# Altium integrated library Microchip Interface.IntLib: 329 symbols (part 6 of 10)
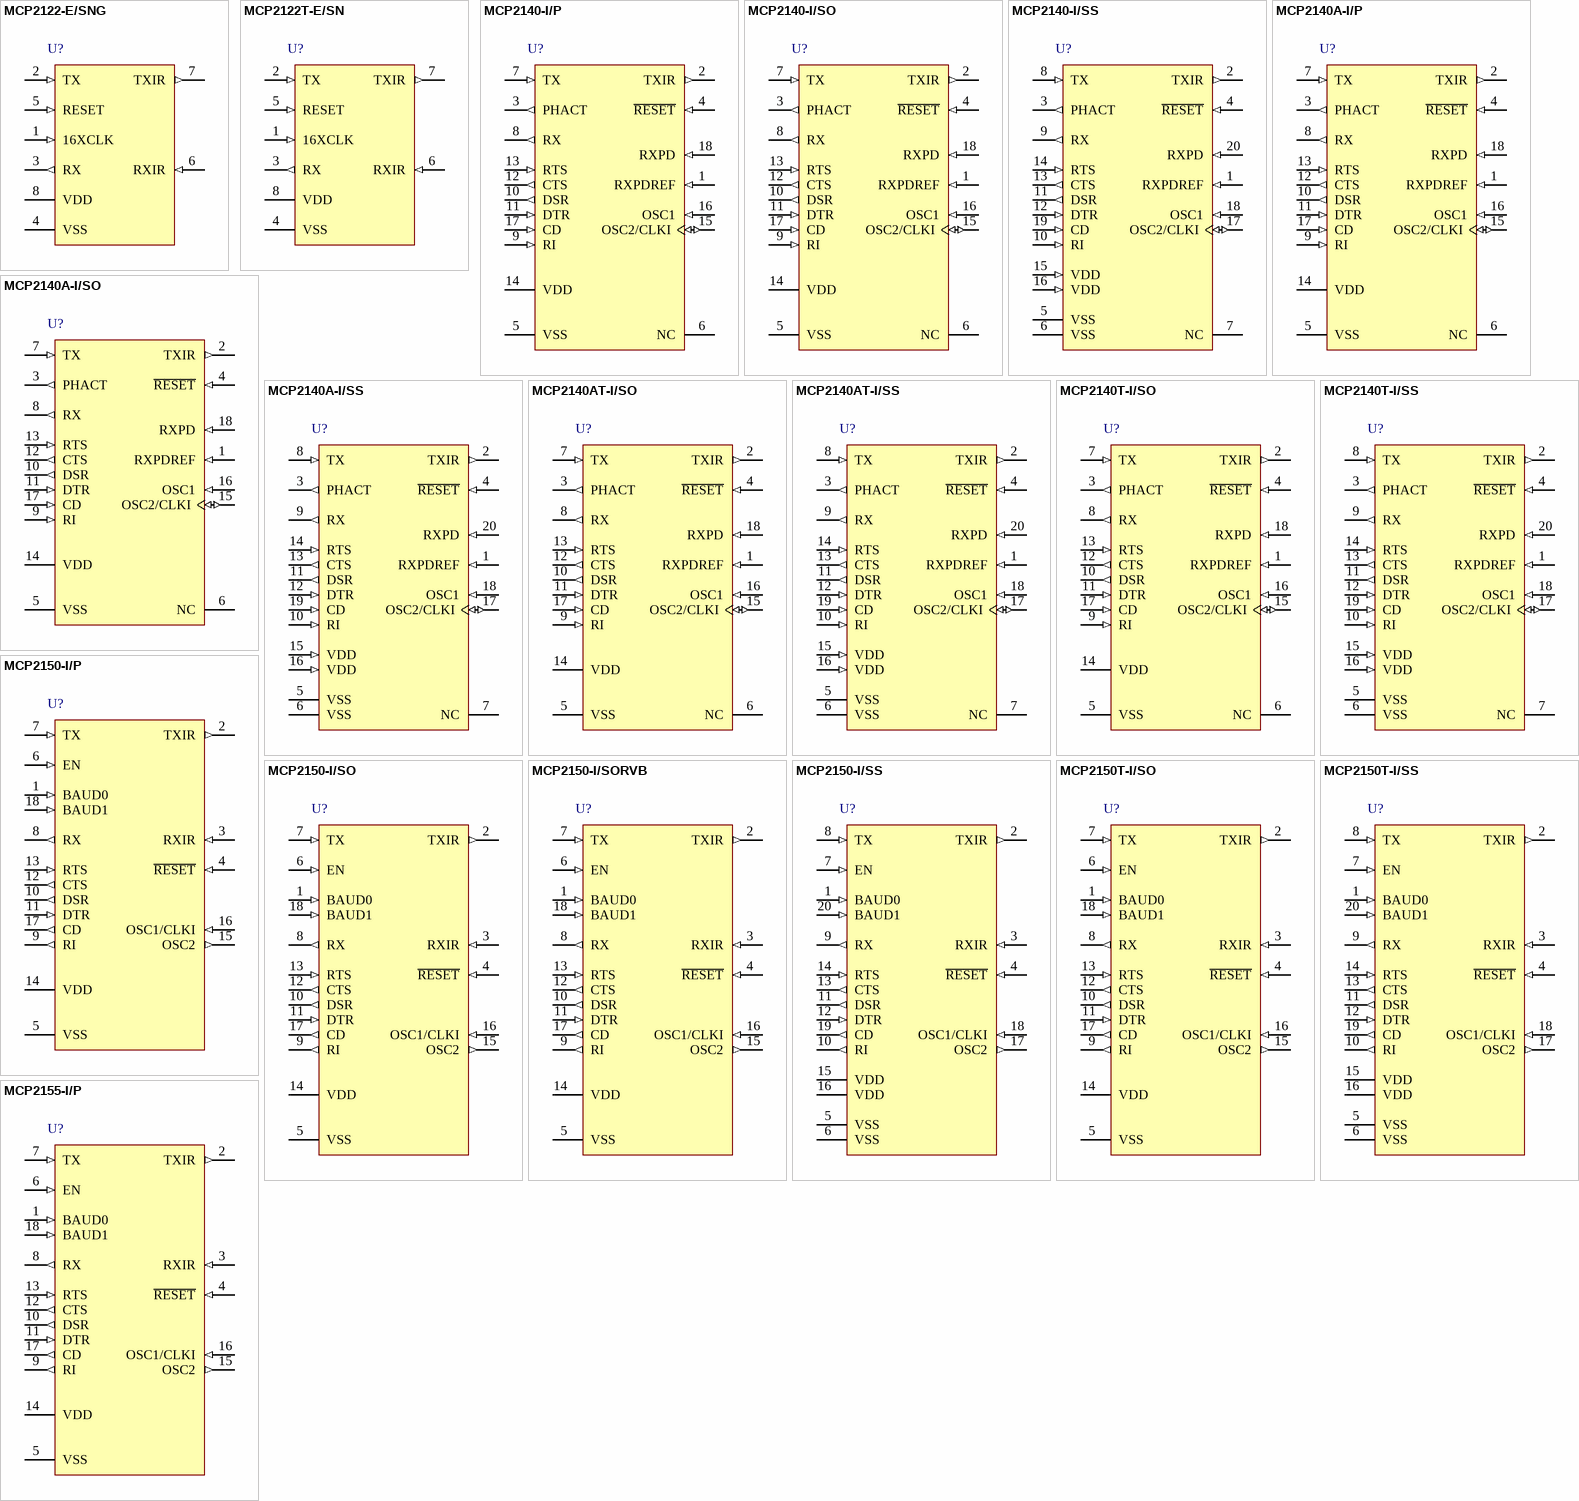
[diagram p18: symbols MCP2122-E/SNG to MCP2155-I/P]

## MCP2150-I/SORVB
designator U?
IrDA® Standard Protocol Stack Controller Supporting DTE Applications, 18-Pin SOIC, Industrial Temperature; Manufacturer: Microchip; PartNumber: MCP2150-I/SORVB; DatasheetVersion: revB, Mar-2003; PackageVersion: revBB, Aug-2009; PackageReference: SOIC-SO18; PackageDescription: 18-Lead Plastic Small Outline (SO) - Wide 7.50mm Body [SOIC]; Mounting Technology: Surface Mount; Code_JEDEC: MS-013; ComponentLink1Description: Manufacturer URL; ComponentLink1URL: http://www.microchip.com/; ComponentLink2Description: Datasheet; ComponentLink2URL: http://ww1.microchip.com/downloads/en/DeviceDoc/21655b.pdf; ComponentLink3Description: Package Specification; ComponentLink3URL: http://www.microchip.com/stellent/groups/techpub_sg/documents/packagingspec/en012702.pdf
footprint SOIC-SO18_N (SOIC, 18-Leads, Body 11.5x7.5mm, Pitch 1.27mm, IPC Medium Density)
footprint SOIC-SO18_L (SOIC, 18-Leads, Body 11.5x7.5mm, Pitch 1.27mm, IPC High Density)
footprint SOIC-SO18_M (SOIC, 18-Leads, Body 11.5x7.5mm, Pitch 1.27mm, IPC Low Density)
pins: 1 BAUD0 (in), 2 TXIR (out), 3 RXIR (in), 4 ~{RESET} (in), 5 VSS (power), 6 EN (in), 7 TX (in), 8 RX (out), 9 RI (out), 10 DSR (out), 11 DTR (in), 12 CTS (out), 13 RTS (in), 14 VDD (power), 15 OSC2 (out), 16 OSC1/CLKI (in), 17 CD (out), 18 BAUD1 (in)

## MCP2150-I/SS
designator U?
IrDA® Standard Protocol Stack Controller Supporting DTE Applications, 20-Pin SSOP, Industrial Temperature; Manufacturer: Microchip; PartNumber: MCP2150-I/SS; DatasheetVersion: revB, Mar-2003; PackageVersion: revBB, Aug-2009; PackageReference: SSOP-SS20; PackageDescription: 20-Lead Plastic Shrink Small Outline (SS) - 5.3mm Body [SSOP]; Supplier 1: Digi-Key; Supplier Part Number 1: MCP2150-I/SS-ND; Supplier 2: Newark; Supplier Part Number 2: 61K2941; Supplier 3: Mouser; Supplier Part Number 3: 579-MCP2150-I/SS; Mounting Technology: Surface Mount; Code_JEDEC: MO-150; ComponentLink1Description: Manufacturer URL; ComponentLink1URL: http://www.microchip.com/; ComponentLink2Description: Datasheet; ComponentLink2URL: http://ww1.microchip.com/downloads/en/DeviceDoc/21655b.pdf; ComponentLink3Description: Package Specification; ComponentLink3URL: http://www.microchip.com/stellent/groups/techpub_sg/documents/packagingspec/en012702.pdf
footprint SSOP-SS20_N (SOP, 20-Leads, Body 7.2x5.2mm, Pitch 0.65mm, IPC Medium Density)
footprint SSOP-SS20_L (SOP, 20-Leads, Body 7.2x5.2mm, Pitch 0.65mm, IPC High Density)
footprint SSOP-SS20_M (SOP, 20-Leads, Body 7.2x5.2mm, Pitch 0.65mm, IPC Low Density)
pins: 1 BAUD0 (in), 2 TXIR (out), 3 RXIR (in), 4 ~{RESET} (in), 5 VSS (power), 6 VSS (power), 7 EN (in), 8 TX (in), 9 RX (out), 10 RI (out), 11 DSR (out), 12 DTR (in), 13 CTS (out), 14 RTS (in), 15 VDD (power), 16 VDD (power), 17 OSC2 (out), 18 OSC1/CLKI (in), 19 CD (out), 20 BAUD1 (in)

## MCP2150T-I/SO
designator U?
IrDA® Standard Protocol Stack Controller Supporting DTE Applications, 18-Pin SOIC, Industrial Temperature, Tape and Reel; Manufacturer: Microchip; PartNumber: MCP2150T-I/SO; DatasheetVersion: revB, Mar-2003; PackageVersion: revBB, Aug-2009; PackageReference: SOIC-SO18; PackageDescription: 18-Lead Plastic Small Outline (SO) - Wide 7.50mm Body [SOIC]; Supplier 1: Digi-Key; Supplier Part Number 1: MCP2150T-I/SO-ND; Supplier 2: Mouser; Supplier Part Number 2: 579-MCP2150T-I/SO; Mounting Technology: Surface Mount; Code_JEDEC: MS-013; ComponentLink1Description: Manufacturer URL; ComponentLink1URL: http://www.microchip.com/; ComponentLink2Description: Datasheet; ComponentLink2URL: http://ww1.microchip.com/downloads/en/DeviceDoc/21655b.pdf; ComponentLink3Description: Package Specification; ComponentLink3URL: http://www.microchip.com/stellent/groups/techpub_sg/documents/packagingspec/en012702.pdf
footprint SOIC-SO18_N (SOIC, 18-Leads, Body 11.5x7.5mm, Pitch 1.27mm, IPC Medium Density)
footprint SOIC-SO18_L (SOIC, 18-Leads, Body 11.5x7.5mm, Pitch 1.27mm, IPC High Density)
footprint SOIC-SO18_M (SOIC, 18-Leads, Body 11.5x7.5mm, Pitch 1.27mm, IPC Low Density)
pins: 1 BAUD0 (in), 2 TXIR (out), 3 RXIR (in), 4 ~{RESET} (in), 5 VSS (power), 6 EN (in), 7 TX (in), 8 RX (out), 9 RI (out), 10 DSR (out), 11 DTR (in), 12 CTS (out), 13 RTS (in), 14 VDD (power), 15 OSC2 (out), 16 OSC1/CLKI (in), 17 CD (out), 18 BAUD1 (in)

## MCP2150T-I/SS
designator U?
IrDA® Standard Protocol Stack Controller Supporting DTE Applications, 20-Pin SSOP, Industrial Temperature, Tape and Reel; Manufacturer: Microchip; PartNumber: MCP2150T-I/SS; DatasheetVersion: revB, Mar-2003; PackageVersion: revBB, Aug-2009; PackageReference: SSOP-SS20; PackageDescription: 20-Lead Plastic Shrink Small Outline (SS) - 5.3mm Body [SSOP]; Supplier 1: Digi-Key; Supplier Part Number 1: MCP2150T-I/SS-ND; Supplier 2: Newark; Supplier Part Number 2: 92C4168; Supplier 3: Mouser; Supplier Part Number 3: 579-MCP2150T-I/SS; Mounting Technology: Surface Mount; Code_JEDEC: MO-150; ComponentLink1Description: Manufacturer URL; ComponentLink1URL: http://www.microchip.com/; ComponentLink2Description: Datasheet; ComponentLink2URL: http://ww1.microchip.com/downloads/en/DeviceDoc/21655b.pdf; ComponentLink3Description: Package Specification; ComponentLink3URL: http://www.microchip.com/stellent/groups/techpub_sg/documents/packagingspec/en012702.pdf
footprint SSOP-SS20_N (SOP, 20-Leads, Body 7.2x5.2mm, Pitch 0.65mm, IPC Medium Density)
footprint SSOP-SS20_L (SOP, 20-Leads, Body 7.2x5.2mm, Pitch 0.65mm, IPC High Density)
footprint SSOP-SS20_M (SOP, 20-Leads, Body 7.2x5.2mm, Pitch 0.65mm, IPC Low Density)
pins: 1 BAUD0 (in), 2 TXIR (out), 3 RXIR (in), 4 ~{RESET} (in), 5 VSS (power), 6 VSS (power), 7 EN (in), 8 TX (in), 9 RX (out), 10 RI (out), 11 DSR (out), 12 DTR (in), 13 CTS (out), 14 RTS (in), 15 VDD (power), 16 VDD (power), 17 OSC2 (out), 18 OSC1/CLKI (in), 19 CD (out), 20 BAUD1 (in)

## MCP2155-I/P
designator U?
IrDA® Standard Protocol Stack Controller Supporting DCE Applications, 18-Pin PDIP, Industrial Temperature; Manufacturer: Microchip; PartNumber: MCP2155-I/P; DatasheetVersion: revA, Mar-2003; PackageVersion: revBB, Aug-2009; PackageReference: PDIP300-P18; PackageDescription: 18-Lead Plastic Dual In-Line (P) - 300 mil Body [PDIP]; Supplier 1: Digi-Key; Supplier Part Number 1: MCP2155-I/P-ND; Supplier 2: Farnell; Supplier Part Number 2: 1557426; Supplier 3: Newark; Supplier Part Number 3: 89C7121; Supplier 4: Mouser; Supplier Part Number 4: 579-MCP2155-I/P; Mounting Technology: Through Hole; Code_JEDEC: MS-001; ComponentLink1Description: Manufacturer URL; ComponentLink1URL: http://www.microchip.com/; ComponentLink2Description: Datasheet; ComponentLink2URL: http://ww1.microchip.com/downloads/en/DeviceDoc/21690a.pdf; ComponentLink3Description: Package Specification; ComponentLink3URL: http://www.microchip.com/stellent/groups/techpub_sg/documents/packagingspec/en012702.pdf
footprint PDIP300-P18 (DIP, 18-Leads, Row Spacing 7.62mm, Pitch 2.54mm, Body 22.9x6.6mm)
pins: 1 BAUD0 (in), 2 TXIR (out), 3 RXIR (in), 4 ~{RESET} (in), 5 VSS (power), 6 EN (in), 7 TX (in), 8 RX (out), 9 RI (out), 10 DSR (out), 11 DTR (in), 12 CTS (out), 13 RTS (in), 14 VDD (power), 15 OSC2 (out), 16 OSC1/CLKI (in), 17 CD (out), 18 BAUD1 (in)

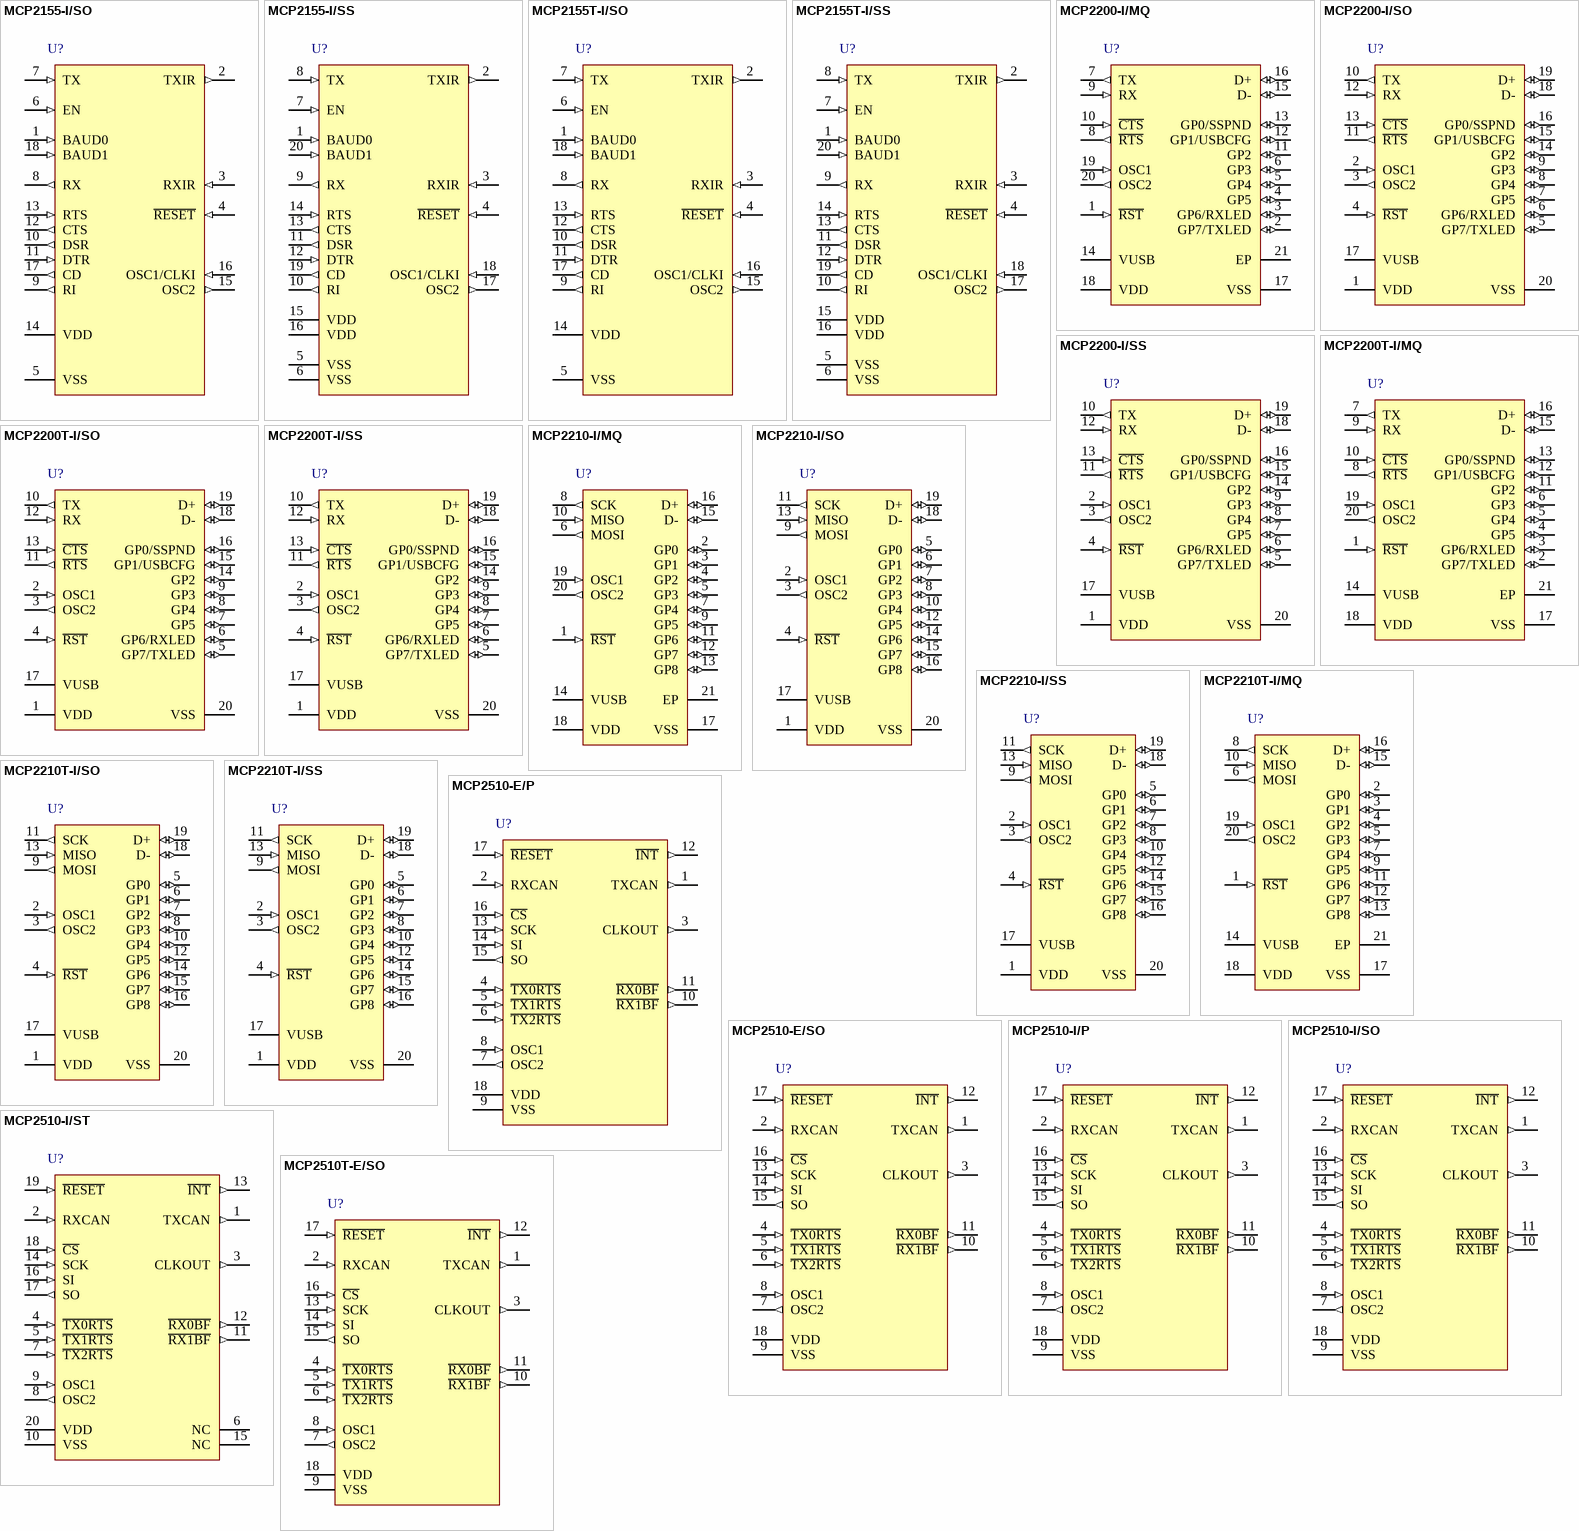
[diagram p8: symbols MCP2155-I/SO to MCP2510T-E/SO]

## MCP2155-I/SO
designator U?
IrDA® Standard Protocol Stack Controller Supporting DCE Applications, 18-Pin SOIC, Industrial Temperature; Manufacturer: Microchip; PartNumber: MCP2155-I/SO; DatasheetVersion: revA, Mar-2003; PackageVersion: revBB, Aug-2009; PackageReference: SOIC-SO18; PackageDescription: 18-Lead Plastic Small Outline (SO) - Wide 7.50mm Body [SOIC]; Supplier 1: Digi-Key; Supplier Part Number 1: MCP2155-I/SO-ND; Supplier 2: Newark; Supplier Part Number 2: 61K2942; Supplier 3: Mouser; Supplier Part Number 3: 579-MCP2155-I/SO; Mounting Technology: Surface Mount; Code_JEDEC: MS-013; ComponentLink1Description: Manufacturer URL; ComponentLink1URL: http://www.microchip.com/; ComponentLink2Description: Datasheet; ComponentLink2URL: http://ww1.microchip.com/downloads/en/DeviceDoc/21690a.pdf; ComponentLink3Description: Package Specification; ComponentLink3URL: http://www.microchip.com/stellent/groups/techpub_sg/documents/packagingspec/en012702.pdf
footprint SOIC-SO18_N (SOIC, 18-Leads, Body 11.5x7.5mm, Pitch 1.27mm, IPC Medium Density)
footprint SOIC-SO18_L (SOIC, 18-Leads, Body 11.5x7.5mm, Pitch 1.27mm, IPC High Density)
footprint SOIC-SO18_M (SOIC, 18-Leads, Body 11.5x7.5mm, Pitch 1.27mm, IPC Low Density)
pins: 1 BAUD0 (in), 2 TXIR (out), 3 RXIR (in), 4 ~{RESET} (in), 5 VSS (power), 6 EN (in), 7 TX (in), 8 RX (out), 9 RI (out), 10 DSR (out), 11 DTR (in), 12 CTS (out), 13 RTS (in), 14 VDD (power), 15 OSC2 (out), 16 OSC1/CLKI (in), 17 CD (out), 18 BAUD1 (in)

## MCP2155-I/SS
designator U?
IrDA® Standard Protocol Stack Controller Supporting DCE Applications, 20-Pin SSOP, Industrial Temperature; Manufacturer: Microchip; PartNumber: MCP2155-I/SS; DatasheetVersion: revA, Mar-2003; PackageVersion: revBB, Aug-2009; PackageReference: SSOP-SS20; PackageDescription: 20-Lead Plastic Shrink Small Outline (SS) - 5.3mm Body [SSOP]; Supplier 1: Digi-Key; Supplier Part Number 1: MCP2155-I/SS-ND; Supplier 2: Farnell; Supplier Part Number 2: 1854485; Supplier 3: Mouser; Supplier Part Number 3: 579-MCP2155-I/SS; Mounting Technology: Surface Mount; Code_JEDEC: MO-150; ComponentLink1Description: Manufacturer URL; ComponentLink1URL: http://www.microchip.com/; ComponentLink2Description: Datasheet; ComponentLink2URL: http://ww1.microchip.com/downloads/en/DeviceDoc/21690a.pdf; ComponentLink3Description: Package Specification; ComponentLink3URL: http://www.microchip.com/stellent/groups/techpub_sg/documents/packagingspec/en012702.pdf
footprint SSOP-SS20_N (SOP, 20-Leads, Body 7.2x5.2mm, Pitch 0.65mm, IPC Medium Density)
footprint SSOP-SS20_L (SOP, 20-Leads, Body 7.2x5.2mm, Pitch 0.65mm, IPC High Density)
footprint SSOP-SS20_M (SOP, 20-Leads, Body 7.2x5.2mm, Pitch 0.65mm, IPC Low Density)
pins: 1 BAUD0 (in), 2 TXIR (out), 3 RXIR (in), 4 ~{RESET} (in), 5 VSS (power), 6 VSS (power), 7 EN (in), 8 TX (in), 9 RX (out), 10 RI (out), 11 DSR (out), 12 DTR (in), 13 CTS (out), 14 RTS (in), 15 VDD (power), 16 VDD (power), 17 OSC2 (out), 18 OSC1/CLKI (in), 19 CD (out), 20 BAUD1 (in)

## MCP2155T-I/SO
designator U?
IrDA® Standard Protocol Stack Controller Supporting DCE Applications, 18-Pin SOIC, Industrial Temperature, Tape and Reel; Manufacturer: Microchip; PartNumber: MCP2155T-I/SO; DatasheetVersion: revA, Mar-2003; PackageVersion: revBB, Aug-2009; PackageReference: SOIC-SO18; PackageDescription: 18-Lead Plastic Small Outline (SO) - Wide 7.50mm Body [SOIC]; Supplier 1: Digi-Key; Supplier Part Number 1: MCP2155T-I/SO-ND; Supplier 2: Mouser; Supplier Part Number 2: 579-MCP2155T-I/SO; Mounting Technology: Surface Mount; Code_JEDEC: MS-013; ComponentLink1Description: Manufacturer URL; ComponentLink1URL: http://www.microchip.com/; ComponentLink2Description: Datasheet; ComponentLink2URL: http://ww1.microchip.com/downloads/en/DeviceDoc/21690a.pdf; ComponentLink3Description: Package Specification; ComponentLink3URL: http://www.microchip.com/stellent/groups/techpub_sg/documents/packagingspec/en012702.pdf
footprint SOIC-SO18_N (SOIC, 18-Leads, Body 11.5x7.5mm, Pitch 1.27mm, IPC Medium Density)
footprint SOIC-SO18_L (SOIC, 18-Leads, Body 11.5x7.5mm, Pitch 1.27mm, IPC High Density)
footprint SOIC-SO18_M (SOIC, 18-Leads, Body 11.5x7.5mm, Pitch 1.27mm, IPC Low Density)
pins: 1 BAUD0 (in), 2 TXIR (out), 3 RXIR (in), 4 ~{RESET} (in), 5 VSS (power), 6 EN (in), 7 TX (in), 8 RX (out), 9 RI (out), 10 DSR (out), 11 DTR (in), 12 CTS (out), 13 RTS (in), 14 VDD (power), 15 OSC2 (out), 16 OSC1/CLKI (in), 17 CD (out), 18 BAUD1 (in)

## MCP2155T-I/SS
designator U?
IrDA® Standard Protocol Stack Controller Supporting DCE Applications, 20-Pin SSOP, Industrial Temperature, Tape and Reel; Manufacturer: Microchip; PartNumber: MCP2155T-I/SS; DatasheetVersion: revA, Mar-2003; PackageVersion: revBB, Aug-2009; PackageReference: SSOP-SS20; PackageDescription: 20-Lead Plastic Shrink Small Outline (SS) - 5.3mm Body [SSOP]; Supplier 1: Digi-Key; Supplier Part Number 1: MCP2155T-I/SS-ND; Supplier 2: Mouser; Supplier Part Number 2: 579-MCP2155T-I/SS; Mounting Technology: Surface Mount; Code_JEDEC: MO-150; ComponentLink1Description: Manufacturer URL; ComponentLink1URL: http://www.microchip.com/; ComponentLink2Description: Datasheet; ComponentLink2URL: http://ww1.microchip.com/downloads/en/DeviceDoc/21690a.pdf; ComponentLink3Description: Package Specification; ComponentLink3URL: http://www.microchip.com/stellent/groups/techpub_sg/documents/packagingspec/en012702.pdf
footprint SSOP-SS20_N (SOP, 20-Leads, Body 7.2x5.2mm, Pitch 0.65mm, IPC Medium Density)
footprint SSOP-SS20_L (SOP, 20-Leads, Body 7.2x5.2mm, Pitch 0.65mm, IPC High Density)
footprint SSOP-SS20_M (SOP, 20-Leads, Body 7.2x5.2mm, Pitch 0.65mm, IPC Low Density)
pins: 1 BAUD0 (in), 2 TXIR (out), 3 RXIR (in), 4 ~{RESET} (in), 5 VSS (power), 6 VSS (power), 7 EN (in), 8 TX (in), 9 RX (out), 10 RI (out), 11 DSR (out), 12 DTR (in), 13 CTS (out), 14 RTS (in), 15 VDD (power), 16 VDD (power), 17 OSC2 (out), 18 OSC1/CLKI (in), 19 CD (out), 20 BAUD1 (in)

## MCP2200-I/MQ
designator U?
USB 2.0 to UART Protocol Converter with GPIO, 20-Pin QFN, Industrial Temperature; Manufacturer: Microchip; PartNumber: MCP2200-I/MQ; DatasheetVersion: revB, Mar-2011; PackageVersion: revBB, Aug-2009; PackageReference: QFN-MQ20; PackageDescription: 20-Lead Plastic Quad Flat, No Lead Package (MQ) - 5x5x0.9 mm Body [QFN]; Supplier 1: Digi-Key; Supplier Part Number 1: MCP2200-I/MQ-ND; Supplier 2: Farnell; Supplier Part Number 2: 1781147; Supplier 3: Newark; Supplier Part Number 3: 52R9946; Supplier 4: Mouser; Supplier Part Number 4: 579-MCP2200-I/MQ; Mounting Technology: Surface Mount; ComponentLink1Description: Manufacturer URL; ComponentLink1URL: http://www.microchip.com/; ComponentLink2Description: Datasheet; ComponentLink2URL: http://ww1.microchip.com/downloads/en/DeviceDoc/22228B.pdf; ComponentLink3Description: Package Specification; ComponentLink3URL: http://www.microchip.com/stellent/groups/techpub_sg/documents/packagingspec/en012702.pdf
footprint QFN-MQ20_N (QFN, 20-Leads, Body 5x5mm, Pitch 0.65mm, Thermal Pad 3.4x3.4mm, IPC Medium Density)
footprint QFN-MQ20_L (QFN, 20-Leads, Body 5x5mm, Pitch 0.65mm, Thermal Pad 3.4x3.4mm, IPC High Density)
footprint QFN-MQ20_M (QFN, 20-Leads, Body 5x5mm, Pitch 0.65mm, Thermal Pad 3.4x3.4mm, IPC Low Density)
pins: 1 ~{RST} (in), 2 GP7/TXLED (io), 3 GP6/RXLED (io), 4 GP5 (io), 5 GP4 (io), 6 GP3 (io), 7 TX (out), 8 ~{RTS} (out), 9 RX (in), 10 ~{CTS} (in), 11 GP2 (io), 12 GP1/USBCFG (io), 13 GP0/SSPND (io), 14 VUSB (power), 15 D- (io), 16 D+ (io), 17 VSS (power), 18 VDD (power), 19 OSC1 (in), 20 OSC2 (out), 21 EP

## MCP2200-I/SO
designator U?
USB 2.0 to UART Protocol Converter with GPIO, 20-Pin SOIC, Industrial Temperature; Manufacturer: Microchip; PartNumber: MCP2200-I/SO; DatasheetVersion: revB, Mar-2011; PackageVersion: revBB, Aug-2009; PackageReference: SOIC-SO20; PackageDescription: 20-Lead Plastic Small Outline (SO) - Wide 7.50mm Body [SOIC]; Supplier 1: Digi-Key; Supplier Part Number 1: MCP2200-I/SO-ND; Supplier 2: Farnell; Supplier Part Number 2: 1781148; Supplier 3: Newark; Supplier Part Number 3: 52R9947; Supplier 4: Mouser; Supplier Part Number 4: 579-MCP2200-I/SO; Mounting Technology: Surface Mount; Code_JEDEC: MS-013-AC; Code_IPC: SOIC127P1030-20; ComponentLink1Description: Manufacturer URL; ComponentLink1URL: http://www.microchip.com/; ComponentLink2Description: Datasheet; ComponentLink2URL: http://ww1.microchip.com/downloads/en/DeviceDoc/22228B.pdf; ComponentLink3Description: Package Specification; ComponentLink3URL: http://www.microchip.com/stellent/groups/techpub_sg/documents/packagingspec/en012702.pdf
footprint SOIC-SO20_N (SOIC, 20-Leads, Body 12.8x7.5mm, Pitch 1.27mm, IPC Medium Density)
footprint SOIC-SO20_L (SOIC, 20-Leads, Body 12.8x7.5mm, Pitch 1.27mm, IPC High Density)
footprint SOIC-SO20_M (SOIC, 20-Leads, Body 12.8x7.5mm, Pitch 1.27mm, IPC Low Density)
pins: 1 VDD (power), 2 OSC1 (in), 3 OSC2 (out), 4 ~{RST} (in), 5 GP7/TXLED (io), 6 GP6/RXLED (io), 7 GP5 (io), 8 GP4 (io), 9 GP3 (io), 10 TX (out), 11 ~{RTS} (out), 12 RX (in), 13 ~{CTS} (in), 14 GP2 (io), 15 GP1/USBCFG (io), 16 GP0/SSPND (io), 17 VUSB (power), 18 D- (io), 19 D+ (io), 20 VSS (power)

## MCP2200-I/SS
designator U?
USB 2.0 to UART Protocol Converter with GPIO, 20-Pin SSOP, Industrial Temperature; Manufacturer: Microchip; PartNumber: MCP2200-I/SS; DatasheetVersion: revB, Mar-2011; PackageVersion: revBB, Aug-2009; PackageReference: SSOP-SS20; PackageDescription: 20-Lead Plastic Shrink Small Outline (SS) - 5.3mm Body [SSOP]; Supplier 1: Digi-Key; Supplier Part Number 1: MCP2200-I/SS-ND; Supplier 2: Farnell; Supplier Part Number 2: 1781149; Supplier 3: Farnell; Supplier Part Number 3: 2134741; Supplier 4: Newark; Supplier Part Number 4: 52R9948; Supplier 5: Mouser; Supplier Part Number 5: 579-MCP2200-I/SS; Mounting Technology: Surface Mount; Code_JEDEC: MO-150; ComponentLink1Description: Manufacturer URL; ComponentLink1URL: http://www.microchip.com/; ComponentLink2Description: Datasheet; ComponentLink2URL: http://ww1.microchip.com/downloads/en/DeviceDoc/22228B.pdf; ComponentLink3Description: Package Specification; ComponentLink3URL: http://www.microchip.com/stellent/groups/techpub_sg/documents/packagingspec/en012702.pdf
footprint SSOP-SS20_N (SOP, 20-Leads, Body 7.2x5.2mm, Pitch 0.65mm, IPC Medium Density)
footprint SSOP-SS20_L (SOP, 20-Leads, Body 7.2x5.2mm, Pitch 0.65mm, IPC High Density)
footprint SSOP-SS20_M (SOP, 20-Leads, Body 7.2x5.2mm, Pitch 0.65mm, IPC Low Density)
pins: 1 VDD (power), 2 OSC1 (in), 3 OSC2 (out), 4 ~{RST} (in), 5 GP7/TXLED (io), 6 GP6/RXLED (io), 7 GP5 (io), 8 GP4 (io), 9 GP3 (io), 10 TX (out), 11 ~{RTS} (out), 12 RX (in), 13 ~{CTS} (in), 14 GP2 (io), 15 GP1/USBCFG (io), 16 GP0/SSPND (io), 17 VUSB (power), 18 D- (io), 19 D+ (io), 20 VSS (power)

## MCP2200T-I/MQ
designator U?
USB 2.0 to UART Protocol Converter with GPIO, 20-Pin QFN, Industrial Temperature, Tape and Reel; Manufacturer: Microchip; PartNumber: MCP2200T-I/MQ; DatasheetVersion: revB, Mar-2011; PackageVersion: revBB, Aug-2009; PackageReference: QFN-MQ20; PackageDescription: 20-Lead Plastic Quad Flat, No Lead Package (MQ) - 5x5x0.9 mm Body [QFN]; Supplier 1: Digi-Key; Supplier Part Number 1: MCP2200T-I/MQ-ND; Supplier 2: Newark; Supplier Part Number 2: 52R9949; Supplier 3: Mouser; Supplier Part Number 3: 579-MCP2200T-I/MQ; Mounting Technology: Surface Mount; ComponentLink1Description: Manufacturer URL; ComponentLink1URL: http://www.microchip.com/; ComponentLink2Description: Datasheet; ComponentLink2URL: http://ww1.microchip.com/downloads/en/DeviceDoc/22228B.pdf; ComponentLink3Description: Package Specification; ComponentLink3URL: http://www.microchip.com/stellent/groups/techpub_sg/documents/packagingspec/en012702.pdf
footprint QFN-MQ20_N (QFN, 20-Leads, Body 5x5mm, Pitch 0.65mm, Thermal Pad 3.4x3.4mm, IPC Medium Density)
footprint QFN-MQ20_L (QFN, 20-Leads, Body 5x5mm, Pitch 0.65mm, Thermal Pad 3.4x3.4mm, IPC High Density)
footprint QFN-MQ20_M (QFN, 20-Leads, Body 5x5mm, Pitch 0.65mm, Thermal Pad 3.4x3.4mm, IPC Low Density)
pins: 1 ~{RST} (in), 2 GP7/TXLED (io), 3 GP6/RXLED (io), 4 GP5 (io), 5 GP4 (io), 6 GP3 (io), 7 TX (out), 8 ~{RTS} (out), 9 RX (in), 10 ~{CTS} (in), 11 GP2 (io), 12 GP1/USBCFG (io), 13 GP0/SSPND (io), 14 VUSB (power), 15 D- (io), 16 D+ (io), 17 VSS (power), 18 VDD (power), 19 OSC1 (in), 20 OSC2 (out), 21 EP

## MCP2200T-I/SO
designator U?
USB 2.0 to UART Protocol Converter with GPIO, 20-Pin SOIC, Industrial Temperature, Tape and Reel; Manufacturer: Microchip; PartNumber: MCP2200T-I/SO; DatasheetVersion: revB, Mar-2011; PackageVersion: revBB, Aug-2009; PackageReference: SOIC-SO20; PackageDescription: 20-Lead Plastic Small Outline (SO) - Wide 7.50mm Body [SOIC]; Supplier 1: Digi-Key; Supplier Part Number 1: MCP2200T-I/SO-ND; Supplier 2: Newark; Supplier Part Number 2: 52R9950; Supplier 3: Mouser; Supplier Part Number 3: 579-MCP2200T-I/SO; Mounting Technology: Surface Mount; Code_JEDEC: MS-013-AC; Code_IPC: SOIC127P1030-20; ComponentLink1Description: Manufacturer URL; ComponentLink1URL: http://www.microchip.com/; ComponentLink2Description: Datasheet; ComponentLink2URL: http://ww1.microchip.com/downloads/en/DeviceDoc/22228B.pdf; ComponentLink3Description: Package Specification; ComponentLink3URL: http://www.microchip.com/stellent/groups/techpub_sg/documents/packagingspec/en012702.pdf
footprint SOIC-SO20_N (SOIC, 20-Leads, Body 12.8x7.5mm, Pitch 1.27mm, IPC Medium Density)
footprint SOIC-SO20_L (SOIC, 20-Leads, Body 12.8x7.5mm, Pitch 1.27mm, IPC High Density)
footprint SOIC-SO20_M (SOIC, 20-Leads, Body 12.8x7.5mm, Pitch 1.27mm, IPC Low Density)
pins: 1 VDD (power), 2 OSC1 (in), 3 OSC2 (out), 4 ~{RST} (in), 5 GP7/TXLED (io), 6 GP6/RXLED (io), 7 GP5 (io), 8 GP4 (io), 9 GP3 (io), 10 TX (out), 11 ~{RTS} (out), 12 RX (in), 13 ~{CTS} (in), 14 GP2 (io), 15 GP1/USBCFG (io), 16 GP0/SSPND (io), 17 VUSB (power), 18 D- (io), 19 D+ (io), 20 VSS (power)

## MCP2200T-I/SS
designator U?
USB 2.0 to UART Protocol Converter with GPIO, 20-Pin SSOP, Industrial Temperature, Tape and Reel; Manufacturer: Microchip; PartNumber: MCP2200T-I/SS; DatasheetVersion: revB, Mar-2011; PackageVersion: revBB, Aug-2009; PackageReference: SSOP-SS20; PackageDescription: 20-Lead Plastic Shrink Small Outline (SS) - 5.3mm Body [SSOP]; Supplier 1: Digi-Key; Supplier Part Number 1: MCP2200T-I/SS-ND; Supplier 2: Mouser; Supplier Part Number 2: 579-MCP2200T-I/SS; Mounting Technology: Surface Mount; Code_JEDEC: MO-150; ComponentLink1Description: Manufacturer URL; ComponentLink1URL: http://www.microchip.com/; ComponentLink2Description: Datasheet; ComponentLink2URL: http://ww1.microchip.com/downloads/en/DeviceDoc/22228B.pdf; ComponentLink3Description: Package Specification; ComponentLink3URL: http://www.microchip.com/stellent/groups/techpub_sg/documents/packagingspec/en012702.pdf
footprint SSOP-SS20_N (SOP, 20-Leads, Body 7.2x5.2mm, Pitch 0.65mm, IPC Medium Density)
footprint SSOP-SS20_L (SOP, 20-Leads, Body 7.2x5.2mm, Pitch 0.65mm, IPC High Density)
footprint SSOP-SS20_M (SOP, 20-Leads, Body 7.2x5.2mm, Pitch 0.65mm, IPC Low Density)
pins: 1 VDD (power), 2 OSC1 (in), 3 OSC2 (out), 4 ~{RST} (in), 5 GP7/TXLED (io), 6 GP6/RXLED (io), 7 GP5 (io), 8 GP4 (io), 9 GP3 (io), 10 TX (out), 11 ~{RTS} (out), 12 RX (in), 13 ~{CTS} (in), 14 GP2 (io), 15 GP1/USBCFG (io), 16 GP0/SSPND (io), 17 VUSB (power), 18 D- (io), 19 D+ (io), 20 VSS (power)

## MCP2210-I/MQ
designator U?
USB-to-SPI Protocol Converter with GPIO (Master Mode), 20-Pin QFN, Industrial Temperature; Manufacturer: Microchip; PartNumber: MCP2210-I/MQ; DatasheetVersion: revA, Dec-2011; PackageVersion: revBB, Aug-2009; PackageReference: QFN-MQ20; PackageDescription: 20-Lead Plastic Quad Flat, No Lead Package (MQ) - 5x5x0.9 mm Body [QFN]; Supplier 1: Digi-Key; Supplier Part Number 1: MCP2210-I/MQ-ND; Supplier 2: Farnell; Supplier Part Number 2: 2078573; Supplier 3: Newark; Supplier Part Number 3: 73T0705; Supplier 4: Mouser; Supplier Part Number 4: 579-MCP2210IMQ; Mounting Technology: Surface Mount; ComponentLink1Description: Manufacturer URL; ComponentLink1URL: http://www.microchip.com/; ComponentLink2Description: Datasheet; ComponentLink2URL: http://ww1.microchip.com/downloads/en/DeviceDoc/22288A.pdf; ComponentLink3Description: Package Specification; ComponentLink3URL: http://www.microchip.com/stellent/groups/techpub_sg/documents/packagingspec/en012702.pdf
footprint QFN-MQ20_N (QFN, 20-Leads, Body 5x5mm, Pitch 0.65mm, Thermal Pad 3.4x3.4mm, IPC Medium Density)
footprint QFN-MQ20_L (QFN, 20-Leads, Body 5x5mm, Pitch 0.65mm, Thermal Pad 3.4x3.4mm, IPC High Density)
footprint QFN-MQ20_M (QFN, 20-Leads, Body 5x5mm, Pitch 0.65mm, Thermal Pad 3.4x3.4mm, IPC Low Density)
pins: 1 ~{RST} (in), 2 GP0 (io), 3 GP1 (io), 4 GP2 (io), 5 GP3 (io), 6 MOSI (out), 7 GP4 (io), 8 SCK (out), 9 GP5 (io), 10 MISO (in), 11 GP6 (io), 12 GP7 (io), 13 GP8 (io), 14 VUSB (power), 15 D- (io), 16 D+ (io), 17 VSS (power), 18 VDD (power), 19 OSC1 (in), 20 OSC2 (out), 21 EP

## MCP2210-I/SO
designator U?
USB-to-SPI Protocol Converter with GPIO (Master Mode), 20-Pin SOIC, Industrial Temperature; Manufacturer: Microchip; PartNumber: MCP2210-I/SO; DatasheetVersion: revA, Dec-2011; PackageVersion: revBB, Aug-2009; PackageReference: SOIC-SO20; PackageDescription: 20-Lead Plastic Small Outline (SO) - Wide 7.50mm Body [SOIC]; Supplier 1: Digi-Key; Supplier Part Number 1: MCP2210-I/SO-ND; Supplier 2: Farnell; Supplier Part Number 2: 2078574; Supplier 3: Newark; Supplier Part Number 3: 83T7176; Supplier 4: Newark; Supplier Part Number 4: 73T0706; Supplier 5: Mouser; Supplier Part Number 5: 579-MCP2210ISO; Mounting Technology: Surface Mount; Code_JEDEC: MS-013-AC; Code_IPC: SOIC127P1030-20; ComponentLink1Description: Manufacturer URL; ComponentLink1URL: http://www.microchip.com/; ComponentLink2Description: Datasheet; ComponentLink2URL: http://ww1.microchip.com/downloads/en/DeviceDoc/22288A.pdf; ComponentLink3Description: Package Specification; ComponentLink3URL: http://www.microchip.com/stellent/groups/techpub_sg/documents/packagingspec/en012702.pdf
footprint SOIC-SO20_N (SOIC, 20-Leads, Body 12.8x7.5mm, Pitch 1.27mm, IPC Medium Density)
footprint SOIC-SO20_L (SOIC, 20-Leads, Body 12.8x7.5mm, Pitch 1.27mm, IPC High Density)
footprint SOIC-SO20_M (SOIC, 20-Leads, Body 12.8x7.5mm, Pitch 1.27mm, IPC Low Density)
pins: 1 VDD (power), 2 OSC1 (in), 3 OSC2 (out), 4 ~{RST} (in), 5 GP0 (io), 6 GP1 (io), 7 GP2 (io), 8 GP3 (io), 9 MOSI (out), 10 GP4 (io), 11 SCK (out), 12 GP5 (io), 13 MISO (in), 14 GP6 (io), 15 GP7 (io), 16 GP8 (io), 17 VUSB (power), 18 D- (io), 19 D+ (io), 20 VSS (power)

## MCP2210-I/SS
designator U?
USB-to-SPI Protocol Converter with GPIO (Master Mode), 20-Pin SSOP, Industrial Temperature; Manufacturer: Microchip; PartNumber: MCP2210-I/SS; DatasheetVersion: revA, Dec-2011; PackageVersion: revBB, Aug-2009; PackageReference: SSOP-SS20; PackageDescription: 20-Lead Plastic Shrink Small Outline (SS) - 5.3mm Body [SSOP]; Supplier 1: Digi-Key; Supplier Part Number 1: MCP2210-I/SS-ND; Supplier 2: Farnell; Supplier Part Number 2: 2078575; Supplier 3: Newark; Supplier Part Number 3: 89T3715; Supplier 4: Newark; Supplier Part Number 4: 73T0707; Supplier 5: Mouser; Supplier Part Number 5: 579-MCP2210ISS; Mounting Technology: Surface Mount; Code_JEDEC: MO-150; ComponentLink1Description: Manufacturer URL; ComponentLink1URL: http://www.microchip.com/; ComponentLink2Description: Datasheet; ComponentLink2URL: http://ww1.microchip.com/downloads/en/DeviceDoc/22288A.pdf; ComponentLink3Description: Package Specification; ComponentLink3URL: http://www.microchip.com/stellent/groups/techpub_sg/documents/packagingspec/en012702.pdf
footprint SSOP-SS20_N (SOP, 20-Leads, Body 7.2x5.2mm, Pitch 0.65mm, IPC Medium Density)
footprint SSOP-SS20_L (SOP, 20-Leads, Body 7.2x5.2mm, Pitch 0.65mm, IPC High Density)
footprint SSOP-SS20_M (SOP, 20-Leads, Body 7.2x5.2mm, Pitch 0.65mm, IPC Low Density)
pins: 1 VDD (power), 2 OSC1 (in), 3 OSC2 (out), 4 ~{RST} (in), 5 GP0 (io), 6 GP1 (io), 7 GP2 (io), 8 GP3 (io), 9 MOSI (out), 10 GP4 (io), 11 SCK (out), 12 GP5 (io), 13 MISO (in), 14 GP6 (io), 15 GP7 (io), 16 GP8 (io), 17 VUSB (power), 18 D- (io), 19 D+ (io), 20 VSS (power)

## MCP2210T-I/MQ
designator U?
USB-to-SPI Protocol Converter with GPIO (Master Mode), 20-Pin QFN, Industrial Temperature, Tape and Reel; Manufacturer: Microchip; PartNumber: MCP2210T-I/MQ; DatasheetVersion: revA, Dec-2011; PackageVersion: revBB, Aug-2009; PackageReference: QFN-MQ20; PackageDescription: 20-Lead Plastic Quad Flat, No Lead Package (MQ) - 5x5x0.9 mm Body [QFN]; Supplier 1: Digi-Key; Supplier Part Number 1: MCP2210T-I/MQ-ND; Supplier 2: Newark; Supplier Part Number 2: 73T0708; Supplier 3: Mouser; Supplier Part Number 3: 579-MCP2210TIMQ; Mounting Technology: Surface Mount; ComponentLink1Description: Manufacturer URL; ComponentLink1URL: http://www.microchip.com/; ComponentLink2Description: Datasheet; ComponentLink2URL: http://ww1.microchip.com/downloads/en/DeviceDoc/22288A.pdf; ComponentLink3Description: Package Specification; ComponentLink3URL: http://www.microchip.com/stellent/groups/techpub_sg/documents/packagingspec/en012702.pdf
footprint QFN-MQ20_N (QFN, 20-Leads, Body 5x5mm, Pitch 0.65mm, Thermal Pad 3.4x3.4mm, IPC Medium Density)
footprint QFN-MQ20_L (QFN, 20-Leads, Body 5x5mm, Pitch 0.65mm, Thermal Pad 3.4x3.4mm, IPC High Density)
footprint QFN-MQ20_M (QFN, 20-Leads, Body 5x5mm, Pitch 0.65mm, Thermal Pad 3.4x3.4mm, IPC Low Density)
pins: 1 ~{RST} (in), 2 GP0 (io), 3 GP1 (io), 4 GP2 (io), 5 GP3 (io), 6 MOSI (out), 7 GP4 (io), 8 SCK (out), 9 GP5 (io), 10 MISO (in), 11 GP6 (io), 12 GP7 (io), 13 GP8 (io), 14 VUSB (power), 15 D- (io), 16 D+ (io), 17 VSS (power), 18 VDD (power), 19 OSC1 (in), 20 OSC2 (out), 21 EP

## MCP2210T-I/SO
designator U?
USB-to-SPI Protocol Converter with GPIO (Master Mode), 20-Pin SOIC, Industrial Temperature, Tape and Reel; Manufacturer: Microchip; PartNumber: MCP2210T-I/SO; DatasheetVersion: revA, Dec-2011; PackageVersion: revBB, Aug-2009; PackageReference: SOIC-SO20; PackageDescription: 20-Lead Plastic Small Outline (SO) - Wide 7.50mm Body [SOIC]; Supplier 1: Digi-Key; Supplier Part Number 1: MCP2210T-I/SO-ND; Supplier 2: Newark; Supplier Part Number 2: 73T0709; Supplier 3: Mouser; Supplier Part Number 3: 579-MCP2210TISO; Mounting Technology: Surface Mount; Code_JEDEC: MS-013-AC; Code_IPC: SOIC127P1030-20; ComponentLink1Description: Manufacturer URL; ComponentLink1URL: http://www.microchip.com/; ComponentLink2Description: Datasheet; ComponentLink2URL: http://ww1.microchip.com/downloads/en/DeviceDoc/22288A.pdf; ComponentLink3Description: Package Specification; ComponentLink3URL: http://www.microchip.com/stellent/groups/techpub_sg/documents/packagingspec/en012702.pdf
footprint SOIC-SO20_N (SOIC, 20-Leads, Body 12.8x7.5mm, Pitch 1.27mm, IPC Medium Density)
footprint SOIC-SO20_L (SOIC, 20-Leads, Body 12.8x7.5mm, Pitch 1.27mm, IPC High Density)
footprint SOIC-SO20_M (SOIC, 20-Leads, Body 12.8x7.5mm, Pitch 1.27mm, IPC Low Density)
pins: 1 VDD (power), 2 OSC1 (in), 3 OSC2 (out), 4 ~{RST} (in), 5 GP0 (io), 6 GP1 (io), 7 GP2 (io), 8 GP3 (io), 9 MOSI (out), 10 GP4 (io), 11 SCK (out), 12 GP5 (io), 13 MISO (in), 14 GP6 (io), 15 GP7 (io), 16 GP8 (io), 17 VUSB (power), 18 D- (io), 19 D+ (io), 20 VSS (power)

## MCP2210T-I/SS
designator U?
USB-to-SPI Protocol Converter with GPIO (Master Mode), 20-Pin SSOP, Industrial Temperature, Tape and Reel; Manufacturer: Microchip; PartNumber: MCP2210T-I/SS; DatasheetVersion: revA, Dec-2011; PackageVersion: revBB, Aug-2009; PackageReference: SSOP-SS20; PackageDescription: 20-Lead Plastic Shrink Small Outline (SS) - 5.3mm Body [SSOP]; Supplier 1: Digi-Key; Supplier Part Number 1: MCP2210T-I/SS-ND; Supplier 2: Newark; Supplier Part Number 2: 73T0710; Supplier 3: Mouser; Supplier Part Number 3: 579-MCP2210TISS; Mounting Technology: Surface Mount; Code_JEDEC: MO-150; ComponentLink1Description: Manufacturer URL; ComponentLink1URL: http://www.microchip.com/; ComponentLink2Description: Datasheet; ComponentLink2URL: http://ww1.microchip.com/downloads/en/DeviceDoc/22288A.pdf; ComponentLink3Description: Package Specification; ComponentLink3URL: http://www.microchip.com/stellent/groups/techpub_sg/documents/packagingspec/en012702.pdf
footprint SSOP-SS20_N (SOP, 20-Leads, Body 7.2x5.2mm, Pitch 0.65mm, IPC Medium Density)
footprint SSOP-SS20_L (SOP, 20-Leads, Body 7.2x5.2mm, Pitch 0.65mm, IPC High Density)
footprint SSOP-SS20_M (SOP, 20-Leads, Body 7.2x5.2mm, Pitch 0.65mm, IPC Low Density)
pins: 1 VDD (power), 2 OSC1 (in), 3 OSC2 (out), 4 ~{RST} (in), 5 GP0 (io), 6 GP1 (io), 7 GP2 (io), 8 GP3 (io), 9 MOSI (out), 10 GP4 (io), 11 SCK (out), 12 GP5 (io), 13 MISO (in), 14 GP6 (io), 15 GP7 (io), 16 GP8 (io), 17 VUSB (power), 18 D- (io), 19 D+ (io), 20 VSS (power)

## MCP2510-E/P
designator U?
Stand-Alone CAN Controller with SPI Interface, 18-Pin PDIP, Extended Temperature; Manufacturer: Microchip; PartNumber: MCP2510-E/P; DatasheetVersion: revF, Jan-2007; PackageVersion: revBB, Aug-2009; PackageReference: PDIP300-P18; PackageDescription: 18-Lead Plastic Dual In-Line (P) - 300 mil Body [PDIP]; Supplier 1: Digi-Key; Supplier Part Number 1: MCP2510-E/P-ND; Supplier 2: Newark; Supplier Part Number 2: 96K3719; Supplier 3: Mouser; Supplier Part Number 3: 579-MCP2510-E/P; Mounting Technology: Through Hole; Code_JEDEC: MS-001; ComponentLink1Description: Manufacturer URL; ComponentLink1URL: http://www.microchip.com/; ComponentLink2Description: Datasheet; ComponentLink2URL: http://ww1.microchip.com/downloads/en/DeviceDoc/21291F.pdf; ComponentLink3Description: Package Specification; ComponentLink3URL: http://www.microchip.com/stellent/groups/techpub_sg/documents/packagingspec/en012702.pdf
footprint PDIP300-P18 (DIP, 18-Leads, Row Spacing 7.62mm, Pitch 2.54mm, Body 22.9x6.6mm)
pins: 1 TXCAN (out), 2 RXCAN (in), 3 CLKOUT (out), 4 ~{TX0RTS} (in), 5 ~{TX1RTS} (in), 6 ~{TX2RTS} (in), 7 OSC2 (out), 8 OSC1 (in), 9 VSS (power), 10 ~{RX1BF} (out), 11 ~{RX0BF} (out), 12 ~{INT} (out), 13 SCK (in), 14 SI (in), 15 SO (out), 16 ~{CS} (in), 17 ~{RESET} (in), 18 VDD (power)

## MCP2510-E/SO
designator U?
Stand-Alone CAN Controller with SPI Interface, 18-Pin SOIC, Extended Temperature; Manufacturer: Microchip; PartNumber: MCP2510-E/SO; DatasheetVersion: revF, Jan-2007; PackageVersion: revBB, Aug-2009; PackageReference: SOIC-SO18; PackageDescription: 18-Lead Plastic Small Outline (SO) - Wide 7.50mm Body [SOIC]; Supplier 1: Digi-Key; Supplier Part Number 1: MCP2510-E/SO-ND; Supplier 2: Newark; Supplier Part Number 2: 23C2821; Supplier 3: Mouser; Supplier Part Number 3: 579-MCP2510-E/SO; Mounting Technology: Surface Mount; Code_JEDEC: MS-013; ComponentLink1Description: Manufacturer URL; ComponentLink1URL: http://www.microchip.com/; ComponentLink2Description: Datasheet; ComponentLink2URL: http://ww1.microchip.com/downloads/en/DeviceDoc/21291F.pdf; ComponentLink3Description: Package Specification; ComponentLink3URL: http://www.microchip.com/stellent/groups/techpub_sg/documents/packagingspec/en012702.pdf
footprint SOIC-SO18_N (SOIC, 18-Leads, Body 11.5x7.5mm, Pitch 1.27mm, IPC Medium Density)
footprint SOIC-SO18_L (SOIC, 18-Leads, Body 11.5x7.5mm, Pitch 1.27mm, IPC High Density)
footprint SOIC-SO18_M (SOIC, 18-Leads, Body 11.5x7.5mm, Pitch 1.27mm, IPC Low Density)
pins: 1 TXCAN (out), 2 RXCAN (in), 3 CLKOUT (out), 4 ~{TX0RTS} (in), 5 ~{TX1RTS} (in), 6 ~{TX2RTS} (in), 7 OSC2 (out), 8 OSC1 (in), 9 VSS (power), 10 ~{RX1BF} (out), 11 ~{RX0BF} (out), 12 ~{INT} (out), 13 SCK (in), 14 SI (in), 15 SO (out), 16 ~{CS} (in), 17 ~{RESET} (in), 18 VDD (power)

## MCP2510-I/P
designator U?
Stand-Alone CAN Controller with SPI Interface, 18-Pin PDIP, Industrial Temperature; Manufacturer: Microchip; PartNumber: MCP2510-I/P; DatasheetVersion: revF, Jan-2007; PackageVersion: revBB, Aug-2009; PackageReference: PDIP300-P18; PackageDescription: 18-Lead Plastic Dual In-Line (P) - 300 mil Body [PDIP]; Supplier 1: Digi-Key; Supplier Part Number 1: MCP2510-I/P-ND; Supplier 2: Farnell; Supplier Part Number 2: 9758534; Supplier 3: Newark; Supplier Part Number 3: 12C1807; Supplier 4: Mouser; Supplier Part Number 4: 579-MCP2510-I/P; Mounting Technology: Through Hole; Code_JEDEC: MS-001; ComponentLink1Description: Manufacturer URL; ComponentLink1URL: http://www.microchip.com/; ComponentLink2Description: Datasheet; ComponentLink2URL: http://ww1.microchip.com/downloads/en/DeviceDoc/21291F.pdf; ComponentLink3Description: Package Specification; ComponentLink3URL: http://www.microchip.com/stellent/groups/techpub_sg/documents/packagingspec/en012702.pdf
footprint PDIP300-P18 (DIP, 18-Leads, Row Spacing 7.62mm, Pitch 2.54mm, Body 22.9x6.6mm)
pins: 1 TXCAN (out), 2 RXCAN (in), 3 CLKOUT (out), 4 ~{TX0RTS} (in), 5 ~{TX1RTS} (in), 6 ~{TX2RTS} (in), 7 OSC2 (out), 8 OSC1 (in), 9 VSS (power), 10 ~{RX1BF} (out), 11 ~{RX0BF} (out), 12 ~{INT} (out), 13 SCK (in), 14 SI (in), 15 SO (out), 16 ~{CS} (in), 17 ~{RESET} (in), 18 VDD (power)

## MCP2510-I/SO
designator U?
Stand-Alone CAN Controller with SPI Interface, 18-Pin SOIC, Industrial Temperature; Manufacturer: Microchip; PartNumber: MCP2510-I/SO; DatasheetVersion: revF, Jan-2007; PackageVersion: revBB, Aug-2009; PackageReference: SOIC-SO18; PackageDescription: 18-Lead Plastic Small Outline (SO) - Wide 7.50mm Body [SOIC]; Supplier 1: Digi-Key; Supplier Part Number 1: MCP2510-I/SO-ND; Supplier 2: Farnell; Supplier Part Number 2: 9758542; Supplier 3: Newark; Supplier Part Number 3: 61K2944; Supplier 4: Mouser; Supplier Part Number 4: 579-MCP2510ISO; Mounting Technology: Surface Mount; Code_JEDEC: MS-013; ComponentLink1Description: Manufacturer URL; ComponentLink1URL: http://www.microchip.com/; ComponentLink2Description: Datasheet; ComponentLink2URL: http://ww1.microchip.com/downloads/en/DeviceDoc/21291F.pdf; ComponentLink3Description: Package Specification; ComponentLink3URL: http://www.microchip.com/stellent/groups/techpub_sg/documents/packagingspec/en012702.pdf
footprint SOIC-SO18_N (SOIC, 18-Leads, Body 11.5x7.5mm, Pitch 1.27mm, IPC Medium Density)
footprint SOIC-SO18_L (SOIC, 18-Leads, Body 11.5x7.5mm, Pitch 1.27mm, IPC High Density)
footprint SOIC-SO18_M (SOIC, 18-Leads, Body 11.5x7.5mm, Pitch 1.27mm, IPC Low Density)
pins: 1 TXCAN (out), 2 RXCAN (in), 3 CLKOUT (out), 4 ~{TX0RTS} (in), 5 ~{TX1RTS} (in), 6 ~{TX2RTS} (in), 7 OSC2 (out), 8 OSC1 (in), 9 VSS (power), 10 ~{RX1BF} (out), 11 ~{RX0BF} (out), 12 ~{INT} (out), 13 SCK (in), 14 SI (in), 15 SO (out), 16 ~{CS} (in), 17 ~{RESET} (in), 18 VDD (power)

## MCP2510-I/ST
designator U?
Stand-Alone CAN Controller with SPI Interface, 20-Pin TSSOP, Industrial Temperature; Manufacturer: Microchip; PartNumber: MCP2510-I/ST; DatasheetVersion: revF, Jan-2007; PackageVersion: revBB, Aug-2009; PackageReference: TSSOP-ST20; PackageDescription: 20-Lead Plastic Thin Shrink Small Outline (ST) - 4.4mm Body [TSSOP]; Supplier 1: Digi-Key; Supplier Part Number 1: MCP2510-I/ST-ND; Supplier 2: Farnell; Supplier Part Number 2: 9758550; Supplier 3: Newark; Supplier Part Number 3: 23C2822; Supplier 4: Mouser; Supplier Part Number 4: 579-MCP2510-I/ST; Mounting Technology: Surface Mount; Code_JEDEC: MO-153-AC; ComponentLink1Description: Manufacturer URL; ComponentLink1URL: http://www.microchip.com/; ComponentLink2Description: Datasheet; ComponentLink2URL: http://ww1.microchip.com/downloads/en/DeviceDoc/21291F.pdf; ComponentLink3Description: Package Specification; ComponentLink3URL: http://www.microchip.com/stellent/groups/techpub_sg/documents/packagingspec/en012702.pdf
footprint TSSOP-ST20_N (TSOP, 20-Leads, Body 6.5x4.4mm, Pitch 0.65mm, IPC Medium Density)
footprint TSSOP-ST20_L (TSOP, 20-Leads, Body 6.5x4.4mm, Pitch 0.65mm, IPC High Density)
footprint TSSOP-ST20_M (TSOP, 20-Leads, Body 6.5x4.4mm, Pitch 0.65mm, IPC Low Density)
pins: 1 TXCAN (out), 2 RXCAN (in), 3 CLKOUT (out), 4 ~{TX0RTS} (in), 5 ~{TX1RTS} (in), 6 NC, 7 ~{TX2RTS} (in), 8 OSC2 (out), 9 OSC1 (in), 10 VSS (power), 11 ~{RX1BF} (out), 12 ~{RX0BF} (out), 13 ~{INT} (out), 14 SCK (in), 15 NC, 16 SI (in), 17 SO (out), 18 ~{CS} (in), 19 ~{RESET} (in), 20 VDD (power)

## MCP2510T-E/SO
designator U?
Stand-Alone CAN Controller with SPI Interface, 18-Pin SOIC, Extended Temperature, Tape and Reel; Manufacturer: Microchip; PartNumber: MCP2510T-E/SO; DatasheetVersion: revF, Jan-2007; PackageVersion: revBB, Aug-2009; PackageReference: SOIC-SO18; PackageDescription: 18-Lead Plastic Small Outline (SO) - Wide 7.50mm Body [SOIC]; Supplier 1: Digi-Key; Supplier Part Number 1: MCP2510T-E/SO-ND; Supplier 2: Mouser; Supplier Part Number 2: 579-MCP2510T-E/SO; Mounting Technology: Surface Mount; Code_JEDEC: MS-013; ComponentLink1Description: Manufacturer URL; ComponentLink1URL: http://www.microchip.com/; ComponentLink2Description: Datasheet; ComponentLink2URL: http://ww1.microchip.com/downloads/en/DeviceDoc/21291F.pdf; ComponentLink3Description: Package Specification; ComponentLink3URL: http://www.microchip.com/stellent/groups/techpub_sg/documents/packagingspec/en012702.pdf
footprint SOIC-SO18_N (SOIC, 18-Leads, Body 11.5x7.5mm, Pitch 1.27mm, IPC Medium Density)
footprint SOIC-SO18_L (SOIC, 18-Leads, Body 11.5x7.5mm, Pitch 1.27mm, IPC High Density)
footprint SOIC-SO18_M (SOIC, 18-Leads, Body 11.5x7.5mm, Pitch 1.27mm, IPC Low Density)
pins: 1 TXCAN (out), 2 RXCAN (in), 3 CLKOUT (out), 4 ~{TX0RTS} (in), 5 ~{TX1RTS} (in), 6 ~{TX2RTS} (in), 7 OSC2 (out), 8 OSC1 (in), 9 VSS (power), 10 ~{RX1BF} (out), 11 ~{RX0BF} (out), 12 ~{INT} (out), 13 SCK (in), 14 SI (in), 15 SO (out), 16 ~{CS} (in), 17 ~{RESET} (in), 18 VDD (power)

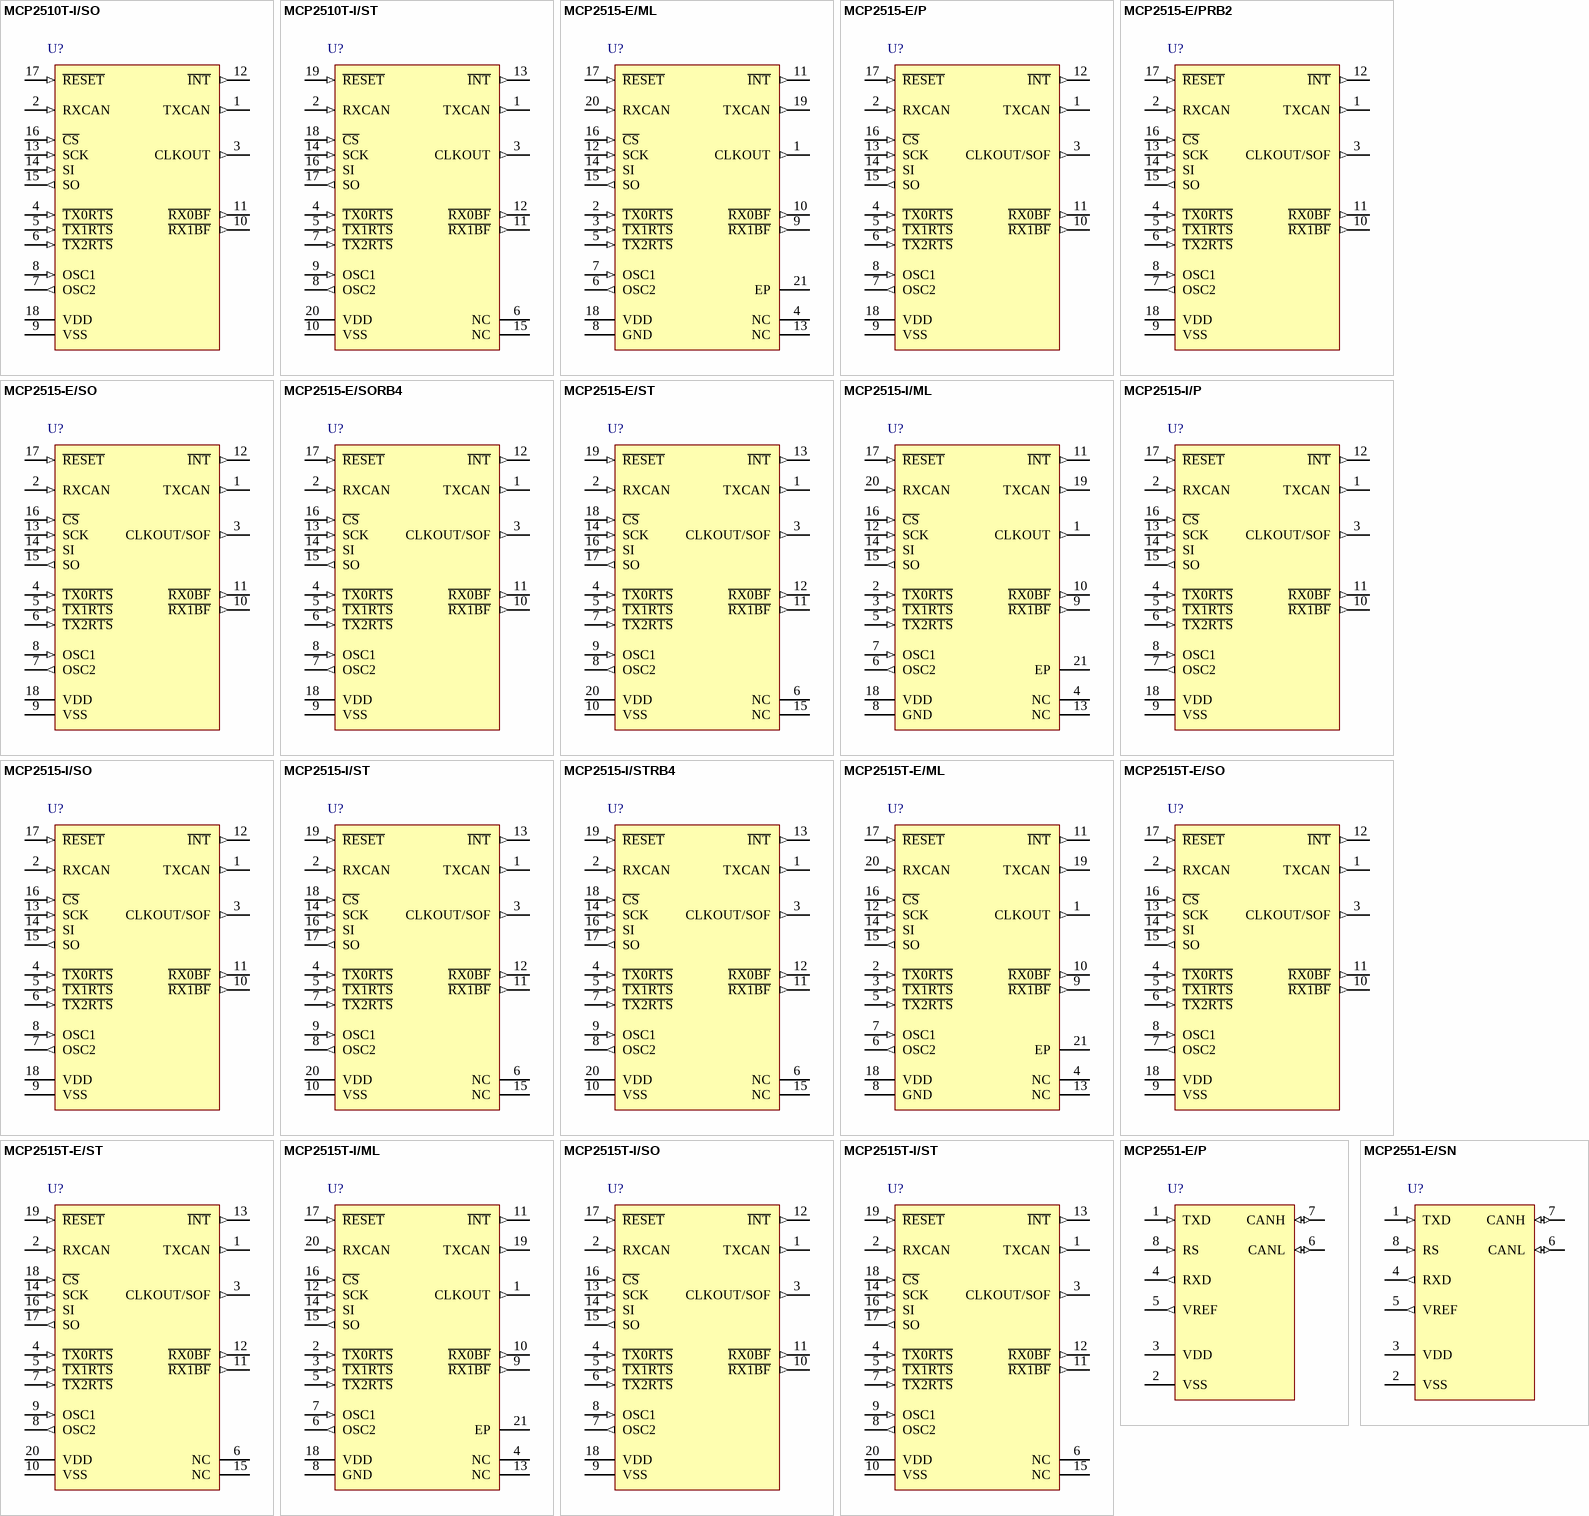
[diagram p9: symbols MCP2510T-I/SO to MCP2551-E/SN]

## MCP2510T-I/SO
designator U?
Stand-Alone CAN Controller with SPI Interface, 18-Pin SOIC, Industrial Temperature, Tape and Reel; Manufacturer: Microchip; PartNumber: MCP2510T-I/SO; DatasheetVersion: revF, Jan-2007; PackageVersion: revBB, Aug-2009; PackageReference: SOIC-SO18; PackageDescription: 18-Lead Plastic Small Outline (SO) - Wide 7.50mm Body [SOIC]; Supplier 1: Digi-Key; Supplier Part Number 1: MCP2510T-I/SO-ND; Supplier 2: Mouser; Supplier Part Number 2: 579-MCP2510T-I/SO; Mounting Technology: Surface Mount; Code_JEDEC: MS-013; ComponentLink1Description: Manufacturer URL; ComponentLink1URL: http://www.microchip.com/; ComponentLink2Description: Datasheet; ComponentLink2URL: http://ww1.microchip.com/downloads/en/DeviceDoc/21291F.pdf; ComponentLink3Description: Package Specification; ComponentLink3URL: http://www.microchip.com/stellent/groups/techpub_sg/documents/packagingspec/en012702.pdf
footprint SOIC-SO18_N (SOIC, 18-Leads, Body 11.5x7.5mm, Pitch 1.27mm, IPC Medium Density)
footprint SOIC-SO18_L (SOIC, 18-Leads, Body 11.5x7.5mm, Pitch 1.27mm, IPC High Density)
footprint SOIC-SO18_M (SOIC, 18-Leads, Body 11.5x7.5mm, Pitch 1.27mm, IPC Low Density)
pins: 1 TXCAN (out), 2 RXCAN (in), 3 CLKOUT (out), 4 ~{TX0RTS} (in), 5 ~{TX1RTS} (in), 6 ~{TX2RTS} (in), 7 OSC2 (out), 8 OSC1 (in), 9 VSS (power), 10 ~{RX1BF} (out), 11 ~{RX0BF} (out), 12 ~{INT} (out), 13 SCK (in), 14 SI (in), 15 SO (out), 16 ~{CS} (in), 17 ~{RESET} (in), 18 VDD (power)

## MCP2510T-I/ST
designator U?
Stand-Alone CAN Controller with SPI Interface, 20-Pin TSSOP, Industrial Temperature, Tape and Reel; Manufacturer: Microchip; PartNumber: MCP2510T-I/ST; DatasheetVersion: revF, Jan-2007; PackageVersion: revBB, Aug-2009; PackageReference: TSSOP-ST20; PackageDescription: 20-Lead Plastic Thin Shrink Small Outline (ST) - 4.4mm Body [TSSOP]; Supplier 1: Digi-Key; Supplier Part Number 1: MCP2510T-I/ST-ND; Supplier 2: Newark; Supplier Part Number 2: 23C2825; Supplier 3: Mouser; Supplier Part Number 3: 579-MCP2510T-I/ST; Mounting Technology: Surface Mount; Code_JEDEC: MO-153-AC; ComponentLink1Description: Manufacturer URL; ComponentLink1URL: http://www.microchip.com/; ComponentLink2Description: Datasheet; ComponentLink2URL: http://ww1.microchip.com/downloads/en/DeviceDoc/21291F.pdf; ComponentLink3Description: Package Specification; ComponentLink3URL: http://www.microchip.com/stellent/groups/techpub_sg/documents/packagingspec/en012702.pdf
footprint TSSOP-ST20_N (TSOP, 20-Leads, Body 6.5x4.4mm, Pitch 0.65mm, IPC Medium Density)
footprint TSSOP-ST20_L (TSOP, 20-Leads, Body 6.5x4.4mm, Pitch 0.65mm, IPC High Density)
footprint TSSOP-ST20_M (TSOP, 20-Leads, Body 6.5x4.4mm, Pitch 0.65mm, IPC Low Density)
pins: 1 TXCAN (out), 2 RXCAN (in), 3 CLKOUT (out), 4 ~{TX0RTS} (in), 5 ~{TX1RTS} (in), 6 NC, 7 ~{TX2RTS} (in), 8 OSC2 (out), 9 OSC1 (in), 10 VSS (power), 11 ~{RX1BF} (out), 12 ~{RX0BF} (out), 13 ~{INT} (out), 14 SCK (in), 15 NC, 16 SI (in), 17 SO (out), 18 ~{CS} (in), 19 ~{RESET} (in), 20 VDD (power)

## MCP2515-E/ML
designator U?
Stand-Alone CAN Controller With SPI Interface, 20-Pin QFN, Extended Temperature; Manufacturer: Microchip; PartNumber: MCP2515-E/ML; DatasheetVersion: revF, Oct-2010; PackageVersion: revBB, Aug-2009; PackageReference: QFN-ML20; PackageDescription: 20-Lead Plastic Quad Flat, No Lead Package (ML) - 4x4x0.9 mm Body [QFN]; Mounting Technology: Surface Mount; ComponentLink1Description: Manufacturer URL; ComponentLink1URL: http://www.microchip.com/; ComponentLink2Description: Datasheet; ComponentLink2URL: http://ww1.microchip.com/downloads/en/DeviceDoc/21801F.pdf; ComponentLink3Description: Package Specification; ComponentLink3URL: http://www.microchip.com/stellent/groups/techpub_sg/documents/packagingspec/en012702.pdf
footprint QFN-ML20_N (QFN, 20-Leads, Body 4x4mm, Pitch 0.5mm, Thermal Pad 2.8x2.8mm, IPC Medium Density)
footprint QFN-ML20_L (QFN, 20-Leads, Body 4x4mm, Pitch 0.5mm, Thermal Pad 2.8x2.8mm, IPC High Density)
footprint QFN-ML20_M (QFN, 20-Leads, Body 4x4mm, Pitch 0.5mm, Thermal Pad 2.8x2.8mm, IPC Low Density)
pins: 1 CLKOUT (out), 2 ~{TX0RTS} (in), 3 ~{TX1RTS} (in), 4 NC, 5 ~{TX2RTS} (in), 6 OSC2 (out), 7 OSC1 (in), 8 GND (power), 9 ~{RX1BF} (out), 10 ~{RX0BF} (out), 11 ~{INT} (out), 12 SCK (in), 13 NC, 14 SI (in), 15 SO (out), 16 ~{CS} (in), 17 ~{RESET} (in), 18 VDD (power), 19 TXCAN (out), 20 RXCAN (in), 21 EP

## MCP2515-E/P
designator U?
Stand-Alone CAN Controller With SPI Interface, 18-Pin PDIP, Extended Temperature; Manufacturer: Microchip; PartNumber: MCP2515-E/P; DatasheetVersion: revF, Oct-2010; PackageVersion: revBB, Aug-2009; PackageReference: PDIP300-P18; PackageDescription: 18-Lead Plastic Dual In-Line (P) - 300 mil Body [PDIP]; Supplier 1: Digi-Key; Supplier Part Number 1: MCP2515-E/P-ND; Supplier 2: Newark; Supplier Part Number 2: 29H7133; Supplier 3: Mouser; Supplier Part Number 3: 579-MCP2515-E/P; Mounting Technology: Through Hole; Code_JEDEC: MS-001; ComponentLink1Description: Manufacturer URL; ComponentLink1URL: http://www.microchip.com/; ComponentLink2Description: Datasheet; ComponentLink2URL: http://ww1.microchip.com/downloads/en/DeviceDoc/21801f.pdf; ComponentLink3Description: Package Specification; ComponentLink3URL: http://www.microchip.com/stellent/groups/techpub_sg/documents/packagingspec/en012702.pdf
footprint PDIP300-P18 (DIP, 18-Leads, Row Spacing 7.62mm, Pitch 2.54mm, Body 22.9x6.6mm)
pins: 1 TXCAN (out), 2 RXCAN (in), 3 CLKOUT/SOF (out), 4 ~{TX0RTS} (in), 5 ~{TX1RTS} (in), 6 ~{TX2RTS} (in), 7 OSC2 (out), 8 OSC1 (in), 9 VSS (power), 10 ~{RX1BF} (out), 11 ~{RX0BF} (out), 12 ~{INT} (out), 13 SCK (in), 14 SI (in), 15 SO (out), 16 ~{CS} (in), 17 ~{RESET} (in), 18 VDD (power)

## MCP2515-E/PRB2
designator U?
Stand-Alone CAN Controller With SPI Interface, 18-Pin , Extended Temperature; Manufacturer: Microchip; PartNumber: MCP2515-E/PRB2; DatasheetVersion: revF, Oct-2010; PackageVersion: revBB, Aug-2009; PackageReference: PDIP300-P18; PackageDescription: 18-Lead Plastic Dual In-Line (P) - 300 mil Body [PDIP]; Mounting Technology: Through Hole; Code_JEDEC: MS-001; ComponentLink1Description: Manufacturer URL; ComponentLink1URL: http://www.microchip.com/; ComponentLink2Description: Datasheet; ComponentLink2URL: http://ww1.microchip.com/downloads/en/DeviceDoc/21801F.pdf; ComponentLink3Description: Package Specification; ComponentLink3URL: http://www.microchip.com/stellent/groups/techpub_sg/documents/packagingspec/en012702.pdf
footprint PDIP300-P18 (DIP, 18-Leads, Row Spacing 7.62mm, Pitch 2.54mm, Body 22.9x6.6mm)
pins: 1 TXCAN (out), 2 RXCAN (in), 3 CLKOUT/SOF (out), 4 ~{TX0RTS} (in), 5 ~{TX1RTS} (in), 6 ~{TX2RTS} (in), 7 OSC2 (out), 8 OSC1 (in), 9 VSS (power), 10 ~{RX1BF} (out), 11 ~{RX0BF} (out), 12 ~{INT} (out), 13 SCK (in), 14 SI (in), 15 SO (out), 16 ~{CS} (in), 17 ~{RESET} (in), 18 VDD (power)

## MCP2515-E/SO
designator U?
Stand-Alone CAN Controller With SPI Interface, 18-Pin SOIC, Extended Temperature; Manufacturer: Microchip; PartNumber: MCP2515-E/SO; DatasheetVersion: revF, Oct-2010; PackageVersion: revBB, Aug-2009; PackageReference: SOIC-SO18; PackageDescription: 18-Lead Plastic Small Outline (SO) - Wide 7.50mm Body [SOIC]; Supplier 1: Digi-Key; Supplier Part Number 1: MCP2515-E/SO-ND; Supplier 2: Farnell; Supplier Part Number 2: 1605565; Supplier 3: Newark; Supplier Part Number 3: 29H7134; Supplier 4: Mouser; Supplier Part Number 4: 579-MCP2515-E/SO; Mounting Technology: Surface Mount; Code_JEDEC: MS-013; ComponentLink1Description: Manufacturer URL; ComponentLink1URL: http://www.microchip.com/; ComponentLink2Description: Datasheet; ComponentLink2URL: http://ww1.microchip.com/downloads/en/DeviceDoc/21801f.pdf; ComponentLink3Description: Package Specification; ComponentLink3URL: http://www.microchip.com/stellent/groups/techpub_sg/documents/packagingspec/en012702.pdf
footprint SOIC-SO18_N (SOIC, 18-Leads, Body 11.5x7.5mm, Pitch 1.27mm, IPC Medium Density)
footprint SOIC-SO18_L (SOIC, 18-Leads, Body 11.5x7.5mm, Pitch 1.27mm, IPC High Density)
footprint SOIC-SO18_M (SOIC, 18-Leads, Body 11.5x7.5mm, Pitch 1.27mm, IPC Low Density)
pins: 1 TXCAN (out), 2 RXCAN (in), 3 CLKOUT/SOF (out), 4 ~{TX0RTS} (in), 5 ~{TX1RTS} (in), 6 ~{TX2RTS} (in), 7 OSC2 (out), 8 OSC1 (in), 9 VSS (power), 10 ~{RX1BF} (out), 11 ~{RX0BF} (out), 12 ~{INT} (out), 13 SCK (in), 14 SI (in), 15 SO (out), 16 ~{CS} (in), 17 ~{RESET} (in), 18 VDD (power)